# Altium footprint library PcbLib1.PcbLib: 14 footprints
Each footprint in its own frame and in the unit in brackets; x right, y up, seen from the top. Pads: shape width x height; smd on the part's side, far side on the other; paste and mask are expansions set on the pad; w line width, h text height; cw(c..) or ccw(c..) is an arc to the next point about the centre after c.
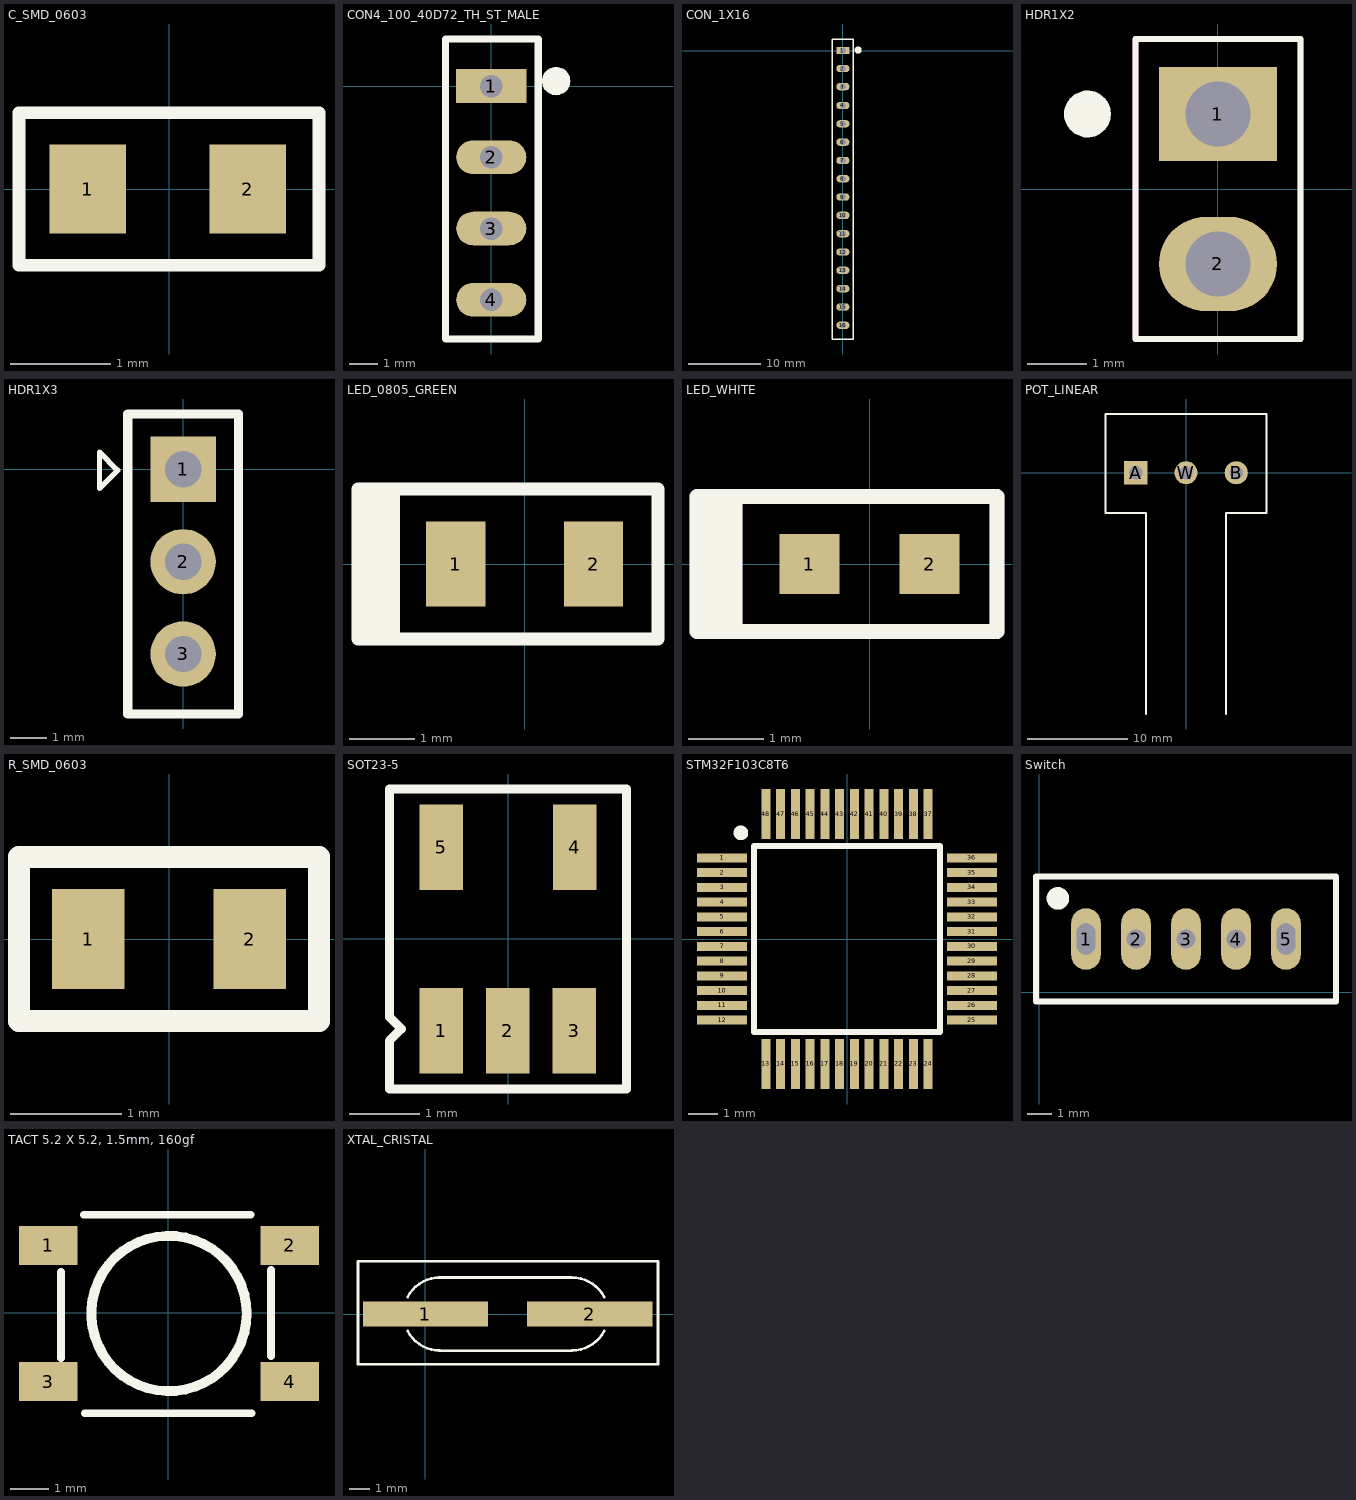
[diagram p0: the footprints below, top view; thin cyan lines are the x and y axes]

## C_SMD_0603 [mil]
pads (2):
  rect 30x35 smd: 1(-32,0) 2(31,0)
Top Overlay:
  lines w5: -59,-30 59,-30 59,30 -59,30 -59,-30
3D body "RSMD0603.step": height 21.65, standoff 0, extent -31.78,-16.17 31.21,15.33

## CON4_100_40D72_TH_ST_MALE [mm] "Berg Strip"
height 11.5
pads (5):
  rect 2.5x1.2 hole 0.8: 1(0,0)
  oval 2.5x1.2 hole 0.8: 2(0,-2.54) 3(0,-5.08) 4(0,-7.62)
  round 1.016 on Top Overlay: ""(2.311,0.178)
Top Overlay:
  lines w0.254: -1.626,-9.017 1.676,-9.017 1.676,0.914 1.676,1.676 -1.626,1.676 -1.626,-9.017
3D body "65781.stp": height 8.55, standoff -2.99, extent -1.143,-8.763 1.397,1.397

## CON_1X16 [mil] "Berg strip"
height 393.7
pads (17):
  rect 72x40 hole 31.5: 1(0,0)
  oval 72x40 hole 31.5: 2(0,-98.43) 3(0,-196.85) 4(0,-300) 5(0,-400) 6(0,-500) 7(0,-600) 8(0,-700) 9(0,-800) 10(0,-900) 11(0,-1000) 12(0,-1100) 13(0,-1200) 14(0,-1300) 15(0,-1400) 16(0,-1500)
  round 40 on Top Overlay: ""(83,2.57)
Top Overlay:
  lines w7.87: -58,-1575 57,-1575 57,62.99 -58,62.99 -58,-1575
3D body "Header, Male, 2.54mm, 1x16.STEP": height 336.22, standoff -118.11, extent -50,-1540 50,60

## HDR1X2 [mm]
pads (2):
  rect 2x1.6 hole 1.1: 1(0,1.27)
  oval 2x1.6 hole 1.1: 2(0,-1.27)
Top Overlay:
  circle w0.254: c-2.21,1.27 r0.27
  rectangle: -2.438,1.067 -1.94,1.448
  lines w0.1: -1.397,-2.54 -1.397,2.54 1.397,2.54 1.397,-2.54 -1.397,-2.54
Mechanical 29:
  lines w0.1: -1.397,-2.54 -1.397,2.54 1.397,2.54 1.397,-2.54 -1.397,-2.54
  text "'.Designator'" at -1.5,-0.8 h0.7
3D body "61300211121.stp": height 8.55, standoff -2.99, extent -1.27,-2.54 1.27,2.54

## HDR1X3 [mm] "Conector header macho 3 vias"
pads (3):
  rect 1.8x1.8 hole 1 mask+0.2: 1(0,0)
  round 1.8 hole 1 mask+0.2: 2(0,-2.54) 3(0,-5.08)
Top Overlay:
  lines w0.15: -2.301,-0.526 -2.301,0.476 -1.8,-0.025 -2.301,-0.526
  lines w0.25: -1.524,-6.731 -1.524,1.524 1.524,1.524 1.524,-6.731 -1.524,-6.731
3D body "Pin Header 1x3 TH Pitch 2.54mm.stp": height 9.5, standoff -3.2, extent -1.27,-6.35 1.27,1.27

## LED_0805_GREEN [mm]
pads (2):
  rect 0.9x1.3 smd: 1(-1.05,0) 2(1.05,0)
Top Overlay:
  region: -2.505,1.143 -1.905,1.143 -1.905,-1.143 -2.505,-1.143
  lines w0.2: -2.54,-1.143 2.032,-1.143 2.032,1.143 -2.54,1.143 -2.54,-1.143
3D body "LED-0805-emerald.step": height 0.8, standoff -0.01, extent -1,-0.625 1,0.625

## LED_WHITE [mm]
pads (2):
  rect 0.8x0.8 smd: 1(-0.8,0) 2(0.8,0)
Top Overlay:
  region: -2.3,0.9 -1.7,0.9 -1.7,-0.9 -2.3,-0.9
  lines w0.2: -2.3,-0.9 1.7,-0.9 1.7,0.9 -2.3,0.9 -2.3,-0.9
Mechanical 2:
  region: -2.3,0.8 -1.7,0.8 -1.7,-0.9 -2.3,-0.9
  lines w0.2: -2.3,-0.9 1.7,-0.9 1.7,0.9 -2.3,0.9 -2.3,-0.9
3D body "Download_STP_WL-WL-SMCD-0603_rev1.stp": height 0.4, standoff 0, extent -0.8,-0.4 0.8,0.4

## POT_LINEAR [mm]
pads (3):
  rect 2.3x2.3 hole 1.3 mask+0.3: A(-5,0)
  round 2.3 hole 1.3 mask+0.3: B(5,0) W(0,0)
Top Overlay:
  lines w0.2: -4,-24 -4,-4 -8,-4 -8,5.842 8,5.842 8,-4 4,-4 4,-24
3D body "POTENCIOMETRO.SLDPRT": height 22, standoff -3, extent -8.15,-22.179 7.85,5.821

## R_SMD_0603 [mm]
pads (2):
  rect 0.65x0.9 smd: 1(-0.725,0) 2(0.725,0)
Top Overlay:
  lines w0.2: -1.346,-0.737 -1.346,0.737 1.346,0.737 1.346,-0.737 -1.346,-0.737
Mechanical 13:
  lines w0.2: -1.346,-0.737 -1.346,0.737 1.346,0.737 1.346,-0.737 -1.346,-0.737
  text "'.Designator'" at -0.94,-0.305 h0.25
3D body "RSMD0603.step": height 0.55, standoff 0, extent -0.8,-0.4 0.8,0.4

## SOT23-5 [mm] "CASE: SOT"
height 1.1
pads (5):
  rect 0.62x1.22 smd mask+0.076: 1(-0.953,-1.31) 2(-0.003,-1.31) 3(0.947,-1.31) 4(0.952,1.31) 5(-0.953,1.31)
Top Overlay:
  lines w0.127: -1.689,-2.138 -1.689,-1.452 -1.519,-1.281 -1.689,-1.111 -1.689,2.137 1.689,2.137 1.689,-2.138 -1.689,-2.138
3D body "User Library-SOT-23-5.STEP": height 1.41, standoff -0.05, extent -1.5,-1.5 1.5,1.5

## STM32F103C8T6 [mm] "48LQFP"
height 1.45
pads (48):
  rect 1.7x0.3 smd mask+0.076: 1(-4.238,2.75) 2(-4.238,2.25) 3(-4.238,1.75) 4(-4.238,1.25) 5(-4.238,0.75) 6(-4.238,0.25) 7(-4.238,-0.25) 8(-4.238,-0.75) 9(-4.238,-1.25) 10(-4.238,-1.75) 11(-4.238,-2.25) 12(-4.238,-2.75) 25(4.238,-2.75) 26(4.238,-2.25) 27(4.238,-1.75) 28(4.238,-1.25) 29(4.238,-0.75) 30(4.238,-0.25) 31(4.238,0.25) 32(4.238,0.75) 33(4.238,1.25) 34(4.238,1.75) 35(4.238,2.25) 36(4.238,2.75)
  rect 0.3x1.7 smd mask+0.076: 13(-2.75,-4.238) 14(-2.25,-4.238) 15(-1.75,-4.238) 16(-1.25,-4.238) 17(-0.75,-4.238) 18(-0.25,-4.238) 19(0.25,-4.238) 20(0.75,-4.238) 21(1.25,-4.238) 22(1.75,-4.238) 23(2.25,-4.238) 24(2.75,-4.238) 37(2.75,4.238) 38(2.25,4.238) 39(1.75,4.238) 40(1.25,4.238) 41(0.75,4.238) 42(0.25,4.238) 43(-0.25,4.238) 44(-0.75,4.238) 45(-1.25,4.238) 46(-1.75,4.238) 47(-2.25,4.238) 48(-2.75,4.238)
Top Overlay:
  circle w0.25: c-3.6,3.6 r0.125
  lines w0.2: -3.15,-3.15 3.15,-3.15 3.15,3.15 -3.15,3.15 -3.15,-3.15
3D body "STM32F103C8T6TR.stp": height 1.7, standoff 0.1, extent -4.5,-4.5 4.5,4.5

## Switch [mil]
pads (5):
  oval 47.24x98.43 hole 30 slot 50 at 90 deg: 1(75,85) 5(395,85)
  oval 47.24x98.43 hole 30: 2(155,85) 3(235,85) 4(315,85)
Top Overlay:
  circle w20: c30,150 r8
  lines w10: -5,-15 -5,185 475,185 475,-15 -5,-15
3D body "OS102011MS2QN1.step": height 373.23, standoff -79.46, extent 65.71,0 404.29,169.29

## TACT 5.2 X 5.2, 1.5mm, 160gf [mm]
pads (4):
  rect 1.5x1 smd: 1(-3.086,1.727) 2(3.137,1.727) 3(-3.086,-1.778) 4(3.137,-1.778)
Top Overlay:
  circle w0.254: c0.025,-0.025 r2
  lines w0.2: -2.756,-1.168 -2.756,1.041 ; -2.172,2.515 2.121,2.515 ; -2.146,-2.591 2.146,-2.591 ; 2.654,-1.118 2.654,1.092
3D body "Tactal Switch - SMD (5mmx 5mmx1.5mm).stp": height 1.5, standoff 0, extent -3.275,-2.573 3.303,2.527

## XTAL_CRISTAL [mm] "8MHz"
height 3
pads (2):
  rect 6.096x1.2 smd: 1(0,0) 2(8,0)
Top Overlay:
  lines w0.127: -0.873,-0.825 ccw(c0.702,0) 0.702,-1.778 ; -0.873,0.825 cw(c0.702,0) 0.702,1.778 ; 0.651,-1.787 7.137,-1.787 ; 0.651,1.778 7.128,1.778 cw(c7.128,0) 8.703,0.825 ; 7.128,-1.778 ccw(c7.128,0) 8.703,-0.825 ; -3.286,-2.438 11.319,-2.438 11.319,2.565 -3.286,2.565 -3.286,-2.438
3D body: height 0.25, standoff 0, extent -2.994,-0.419 -1.673,0.394
3D body: height 0.25, standoff 0, extent 9.579,-0.419 10.9,0.394
3D body: height 1.02, standoff 0, extent -1.889,1.143 -0.086,2.413
3D body: height 1.02, standoff 0, extent 7.992,1.143 9.795,2.413
3D body: height 1.02, standoff 0, extent -1.902,-2.273 -0.098,-1.003
3D body: height 1.02, standoff 0, extent 8.004,-2.273 9.808,-1.003
3D body: height 3.05, standoff 0, extent -1.076,-1.778 8.881,1.778
3D body: height 0.51, standoff 0, extent -1.902,-2.273 9.795,2.413